# Altium schematic symbol library conn-automotive-relay.Schlib: 1 symbol
Pins are listed as number, name and electrical type; pins without a type are passive.

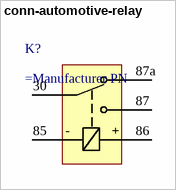
[diagram p0: symbol conn-automotive-relay]

## conn-automotive-relay
designator K?
Type A Relay socket
pins: 30, 85 -, 86 +, 87, 87a